# Altium footprint library ADLibrary_Footprints.PcbLib: 35 footprints (part 2 of 3)
Each footprint in its own frame and in the unit in brackets; x right, y up, seen from the top. Pads: shape width x height; smd on the part's side, far side on the other; paste and mask are expansions set on the pad; w line width, h text height; cw(c..) or ccw(c..) is an arc to the next point about the centre after c.
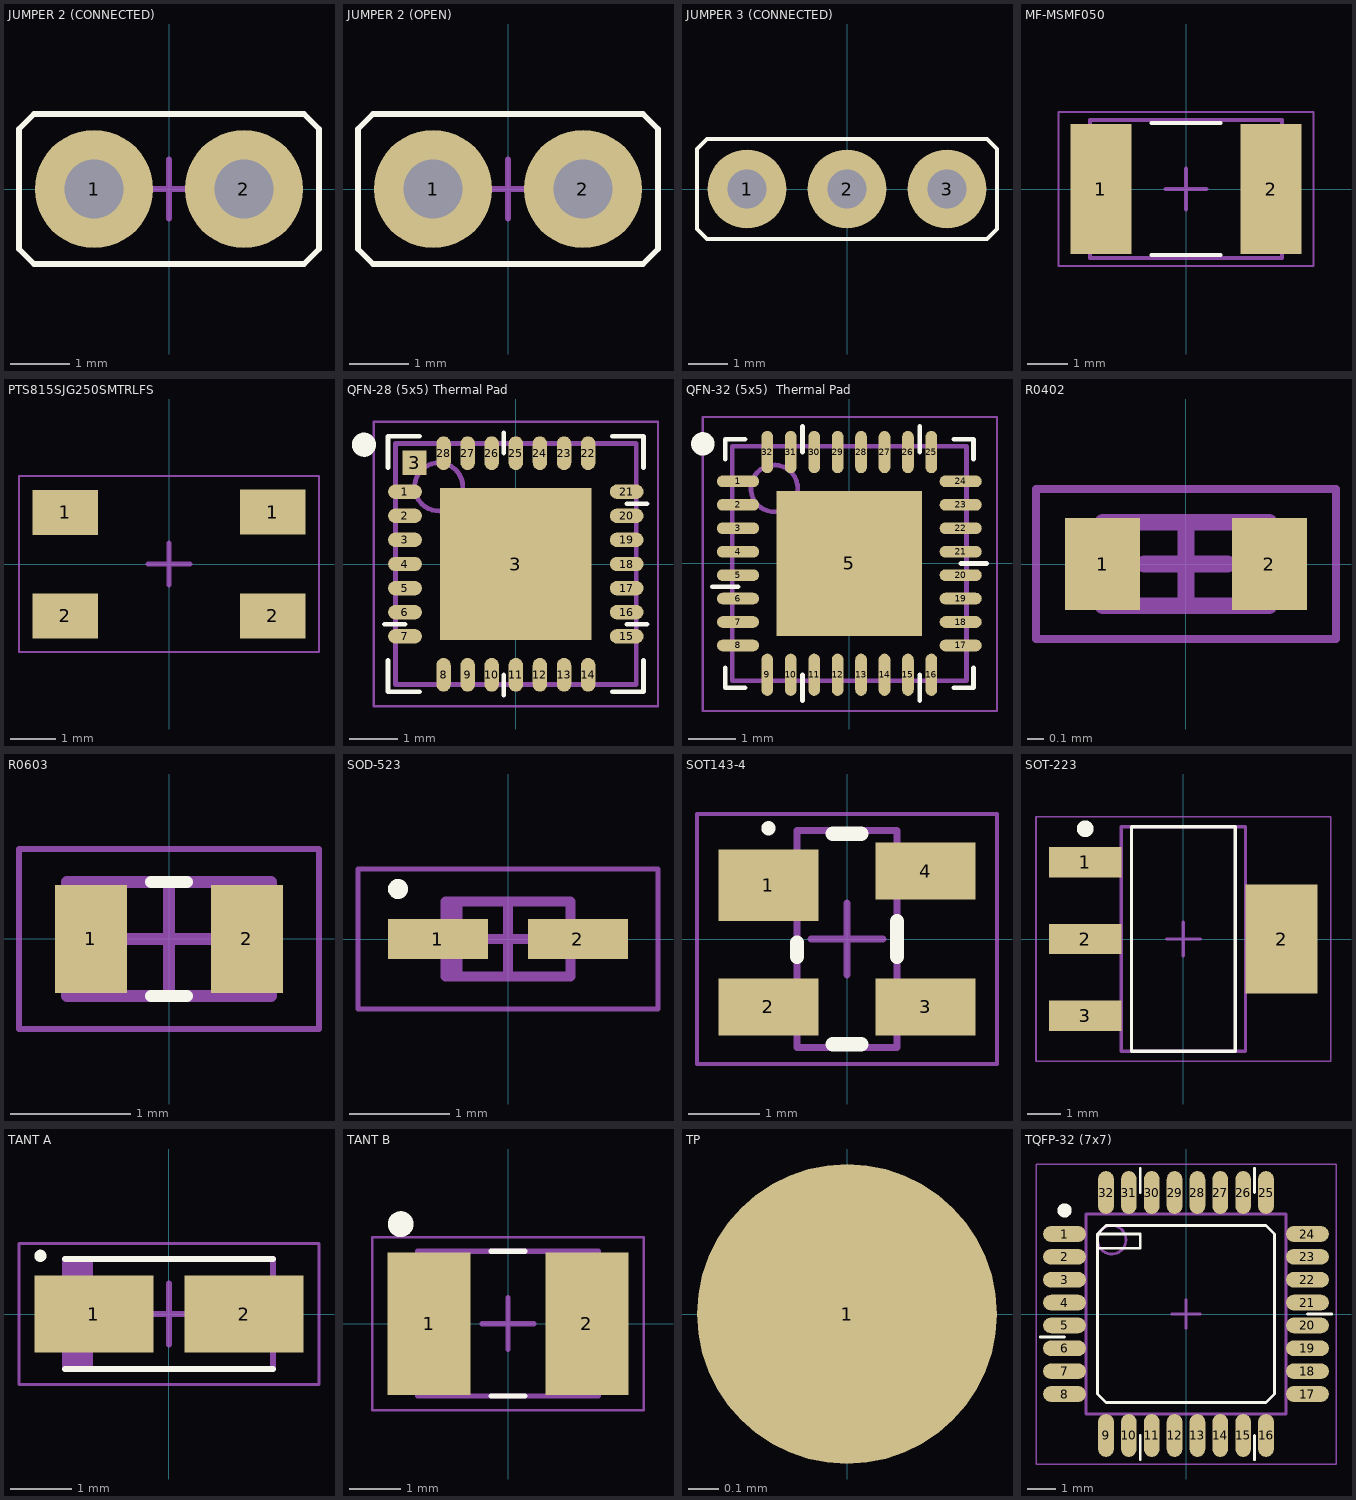
[diagram p1: the footprints below, top view; thin cyan lines are the x and y axes]

## JUMPER 2 (CONNECTED) [mm]
pads (2):
  round 2 hole 1: 1(-1.27,0) 2(1.27,0)
Top Overlay:
  lines w0.1: -2.54,-1.016 -2.54,1.016 -2.286,1.27 2.286,1.27 2.54,1.016 2.54,-1.016 2.286,-1.27 -2.286,-1.27 -2.54,-1.016
Mechanical 15:
  lines w0.1: -0.5,0 0.5,0 ; 0,-0.5 0,0.5
3D body "Jumper2-yellow.step": height 8.6, standoff -3, extent -2.6,-1.27 2.6,1.27

## JUMPER 2 (OPEN) [mm]
pads (2):
  round 2 hole 1: 1(-1.27,0) 2(1.27,0)
Top Overlay:
  lines w0.1: -2.54,-1.016 -2.286,-1.27 2.286,-1.27 2.54,-1.016 2.54,1.016 2.286,1.27 -2.286,1.27 -2.54,1.016 -2.54,-1.016
Mechanical 15:
  lines w0.1: -0.5,0 0.5,0 ; 0,-0.5 0,0.5
3D body "Pin Header 1x2.STEP": height 8.54, standoff -3, extent -2.54,-1.27 2.54,1.27

## JUMPER 3 (CONNECTED) [mm]
pads (3):
  round 2 hole 1: 1(-2.54,0) 2(0,0) 3(2.54,0)
Top Overlay:
  lines w0.1: -3.81,-1.016 -3.81,1.016 -3.556,1.27 3.556,1.27 3.81,1.016 3.81,-1.016 3.556,-1.27 -3.556,-1.27 -3.81,-1.016
Mechanical 15:
  lines w0.1: -0.5,0 0.5,0 ; 0,-0.5 0,0.5
3D body "Jumper3-yellow.step": height 8.6, standoff -3, extent -3.845,-1.27 3.835,1.27

## MF-MSMF050 [mm] "Fuse 0.5A"
height 0.85
pads (2):
  rect 1.5x3.2 smd: 1(-2.1,0) 2(2.1,0)
Top Overlay:
  lines w0.1: -0.85,-1.625 0.85,-1.625 ; -0.85,1.625 0.85,1.625
Mechanical 13:
  lines w0.1: -2.365,-1.705 -2.365,1.705 2.365,1.705 2.365,-1.705 -2.365,-1.705
Mechanical 15:
  lines w0.05: -3.15,-1.9 -3.15,1.9 3.15,1.9 3.15,-1.9 -3.15,-1.9
  lines w0.1: -0.5,0 0.5,0 ; 0,-0.5 0,0.5
3D body "MF-MSMF050.STEP": height 0.85, standoff 0, extent -2.275,-1.62 2.275,1.62

## PTS815SJG250SMTRLFS [mm] "3.2x4.2 Tact Switch"
pads (4):
  rect 1.45x1 smd: 1(-2.302,1.144) 1(2.3,1.15) 2(-2.3,-1.15) 2(2.3,-1.15)
Mechanical 15:
  lines w0.05: -3.325,-1.95 3.325,-1.95 3.325,1.95 -3.325,1.95 -3.325,-1.95
  lines w0.1: -0.475,0 0.475,0 ; 0,-0.475 0,0.475
3D body "PTS815SJG250SMTRLFS.stp": height 2.5, standoff 0, extent -2.25,-1.6 2.25,1.6

## QFN-28 (5x5) Thermal Pad [mm] "QFN, 28-Leads, Body 5,00x5,00mm, Pitch 0,50mm, Thermal Pad 3,15x3,15mm, IPC Medium Density"
height 0.9
pads (30):
  oval 0.7x0.3 smd: 1(-2.3,1.5) 2(-2.3,1) 3(-2.3,0.5) 4(-2.3,0) 5(-2.3,-0.5) 6(-2.3,-1) 7(-2.3,-1.5) 15(2.3,-1.5) 16(2.3,-1) 17(2.3,-0.5) 18(2.3,0) 19(2.3,0.5) 20(2.3,1) 21(2.3,1.5)
  rect 0.5x0.5 smd: 3(-2.1,2.1)
  rect 3.15x3.15 smd: 3(0,0)
  oval 0.3x0.7 smd: 8(-1.5,-2.3) 9(-1,-2.3) 10(-0.5,-2.3) 11(0,-2.3) 12(0.5,-2.3) 13(1,-2.3) 14(1.5,-2.3) 22(1.5,2.3) 23(1,2.3) 24(0.5,2.3) 25(0,2.3) 26(-0.5,2.3) 27(-1,2.3) 28(-1.5,2.3)
Top Overlay:
  circle w0.25: c-3.15,2.475 r0.125
  lines w0.1: -2.725,-1.25 -2.3,-1.25 ; -2.65,-2 -2.65,-2.65 -2,-2.65 ; -2.65,2 -2.65,2.65 -2,2.65 ; -0.25,-2.725 -0.25,-2.3 ; -0.25,2.3 -0.25,2.725 ; 2,-2.65 2.65,-2.65 2.65,-2 ; 2,2.65 2.65,2.65 2.65,2 ; 2.3,-1.25 2.725,-1.25 ; 2.3,1.25 2.725,1.25
Mechanical 13:
  circle w0.1: c-1.6,1.6 r0.5
  lines w0.1: -2.5,-2.5 2.5,-2.5 2.5,2.5 -2.5,2.5 -2.5,-2.5
Mechanical 15:
  lines w0.05: -2.95,-2.95 2.95,-2.95 2.95,2.95 -2.95,2.95 -2.95,-2.95
  lines w0.1: -0.5,0 0.5,0 ; 0,-0.5 0,0.5
3D body "CP2102-GMR.STEP": height 1, standoff 0, extent -2.5,-2.5 2.5,2.5

## QFN-32 (5x5)  Thermal Pad [mm] "QFN, 32-Leads, Body 5,00x5,00mm, Pitch 0,50mm, Thermal Pad 3,10x3,10mm, IPC Medium Density"
height 0.9
pads (33):
  oval 0.9x0.25 smd: 1(-2.375,1.75) 2(-2.375,1.25) 3(-2.375,0.75) 4(-2.375,0.25) 5(-2.375,-0.25) 6(-2.375,-0.75) 7(-2.375,-1.25) 8(-2.375,-1.75) 17(2.375,-1.75) 18(2.375,-1.25) 19(2.375,-0.75) 20(2.375,-0.25) 21(2.375,0.25) 22(2.375,0.75) 23(2.375,1.25) 24(2.375,1.75)
  rect 3.1x3.1 smd: 5(0,0)
  oval 0.25x0.9 smd: 9(-1.75,-2.375) 10(-1.25,-2.375) 11(-0.75,-2.375) 12(-0.25,-2.375) 13(0.25,-2.375) 14(0.75,-2.375) 15(1.25,-2.375) 16(1.75,-2.375) 25(1.75,2.375) 26(1.25,2.375) 27(0.75,2.375) 28(0.25,2.375) 29(-0.25,2.375) 30(-0.75,2.375) 31(-1.25,2.375) 32(-1.75,2.375)
Top Overlay:
  circle w0.25: c-3.125,2.55 r0.125
  lines w0.1: -2.925,-0.5 -2.375,-0.5 ; -2.65,-2.225 -2.65,-2.65 -2.225,-2.65 ; -2.65,2.225 -2.65,2.65 -2.225,2.65 ; -1,-2.925 -1,-2.375 ; -1,2.375 -1,2.925 ; 1.5,-2.925 1.5,-2.375 ; 1.5,2.375 1.5,2.925 ; 2.225,-2.65 2.65,-2.65 2.65,-2.225 ; 2.225,2.65 2.65,2.65 2.65,2.225 ; 2.375,0 2.925,0
Mechanical 13:
  circle w0.1: c-1.6,1.6 r0.5
  lines w0.1: -2.5,-2.5 2.5,-2.5 2.5,2.5 -2.5,2.5 -2.5,-2.5
Mechanical 15:
  lines w0.05: -3.125,-3.15 -3.125,3.125 3.15,3.125 3.15,-3.15 -3.125,-3.15
  lines w0.1: -0.5,0 0.5,0 ; 0,-0.5 0,0.5
3D body "QFN-32 (5x5).step": height 0.9, standoff 0, extent -2.501,-2.501 2.501,2.501

## R0402 [mm] "Chip Resistor, 2-Leads, Body 1,00x0,50mm, IPC Medium Density"
height 0.35
pads (2):
  rect 0.45x0.55 smd: 1(-0.5,0) 2(0.5,0)
Mechanical 13:
  lines w0.1: -0.5,-0.25 0.5,-0.25 0.5,0.25 -0.5,0.25 -0.5,-0.25
Mechanical 15:
  lines w0.05: -0.9,-0.45 0.9,-0.45 0.9,0.45 -0.9,0.45 -0.9,-0.45
  lines w0.1: -0.25,0 0.25,0 ; 0,-0.25 0,0.25
3D body "R0402.step": height 0.36, standoff 0.01, extent -0.508,-0.254 0.508,0.254

## R0603 [mm] "Chip Resistor, 2-Leads, Body 1,60x0,85mm, IPC Medium Density"
height 0.45
pads (2):
  rect 0.6x0.9 smd: 1(-0.65,0) 2(0.65,0)
Top Overlay:
  lines w0.1: -0.15,-0.475 0.15,-0.475 ; -0.15,0.475 0.15,0.475
Mechanical 13:
  lines w0.1: -0.85,-0.475 -0.85,0.475 0.85,0.475 0.85,-0.475 -0.85,-0.475
Mechanical 15:
  lines w0.05: -1.25,-0.75 -1.25,0.75 1.25,0.75 1.25,-0.75 -1.25,-0.75
  lines w0.1: -0.475,0 0.475,0 ; 0,-0.475 0,0.475
3D body "R0603.stp": height 0.55, standoff 0, extent -0.85,-0.45 0.85,0.45

## SOD-523 [mm] "Molded Diode, 2-Leads, Body 1,25x0,80mm, IPC Medium Density"
height 0.65
pads (2):
  rect 1x0.4 smd: 1(-0.7,0) 2(0.7,0)
Top Overlay:
  circle w0.1: c-1.1,0.5 r0.05
Mechanical 13:
  rectangle: -0.625,-0.375 -0.457,0.375
  lines w0.1: -0.625,-0.375 0.625,-0.375 0.625,0.375 -0.625,0.375 -0.625,-0.375
Mechanical 15:
  lines w0.05: -1.5,-0.7 1.5,-0.7 1.5,0.7 -1.5,0.7 -1.5,-0.7
  lines w0.1: -0.375,0 0.375,0 ; 0,-0.375 0,0.375
3D body "PMEG2010AEBF.STEP": height 0.65, standoff 0, extent -0.8,-0.4 0.8,0.4

## SOT143-4 [mm] "SOT143, 4-Leads, Body 2,92x2,51mm, Pitch 1,90mm, IPC Medium Density"
height 1.22
pads (4):
  rect 1.4x1 smd: 1(-1.1,0.75)
  rect 1.4x0.8 smd: 2(-1.1,-0.95) 3(1.1,-0.95) 4(1.1,0.95)
Top Overlay:
  circle w0.1: c-1.1,1.55 r0.05
  lines w0.2: -0.7,-0.25 -0.7,-0.05 ; -0.2,-1.475 0.2,-1.475 ; -0.2,1.475 0.2,1.475 ; 0.7,-0.25 0.7,0.25
Mechanical 13:
  lines w0.1: -0.7,-1.52 -0.7,1.52 0.7,1.52 0.7,-1.52 -0.7,-1.52
Mechanical 15:
  lines w0.05: -2.1,-1.75 -2.1,1.75 2.1,1.75 2.1,-1.75 -2.1,-1.75
  lines w0.1: -0.5,0 0.5,0 ; 0,-0.5 0,0.5
3D body "SP0503BAHTG.STEP": height 1.22, standoff 0, extent -1.185,-1.46 1.185,1.46

## SOT-223 [mm] "SOT223, 4-Leads, Body 6,51x7,00mm (avg), Pitch 2,29mm, IPC Medium Density"
height 1.8
pads (4):
  rect 2.15x0.9 smd: 1(-2.93,2.29) 2(-2.93,0) 3(-2.93,-2.29)
  rect 2.15x3.25 smd: 2(2.93,0)
Top Overlay:
  circle w0.25: c-2.93,3.29 r0.125
  lines w0.1: -1.55,-3.35 1.55,-3.35 1.55,3.35 -1.55,3.35 -1.55,-3.35
Mechanical 13:
  lines w0.1: -1.855,-3.355 1.855,-3.355 1.855,3.355 -1.855,3.355 -1.855,-3.355
Mechanical 15:
  lines w0.05: -4.4,-3.65 4.4,-3.65 4.4,3.65 -4.4,3.65 -4.4,-3.65
  lines w0.1: -0.5,0 0.5,0 ; 0,-0.5 0,0.5
3D body "AMS1117-5.0.STEP": height 1.8, standoff 0, extent -3.499,-3.251 3.499,3.251

## TANT A [mm] "Molded Capacitor, 2-Leads, Body 3,20x1,60mm, IPC Medium Density"
height 1.8
pads (2):
  rect 1.95x1.25 smd: 1(-1.225,0) 2(1.225,0)
Top Overlay:
  circle w0.1: c-2.1,0.95 r0.05
  lines w0.1: -1.7,-0.9 1.7,-0.9 ; -1.7,0.9 1.7,0.9
Mechanical 13:
  rectangle: -1.7,-0.9 -1.243,0.9
  lines w0.1: -1.7,-0.9 1.7,-0.9 1.7,0.9 -1.7,0.9 -1.7,-0.9
Mechanical 15:
  lines w0.05: -2.45,-1.15 2.45,-1.15 2.45,1.15 -2.45,1.15 -2.45,-1.15
  lines w0.1: -0.5,0 0.5,0 ; 0,-0.5 0,0.5
3D body "TANT A.STEP": height 1.8, standoff 0, extent -1.819,-0.9 1.819,0.903

## TANT B [mm] "Molded Capacitor, 2-Leads, Body 3,50x2,80mm, IPC Medium Density"
height 1.9
pads (2):
  rect 1.6x2.75 smd: 1(-1.525,0) 2(1.525,0)
Top Overlay:
  circle w0.25: c-2.075,1.925 r0.125
  lines w0.1: -0.325,-1.4 0.325,-1.4 ; -0.325,1.4 0.325,1.4
Mechanical 13:
  rectangle: -1.75,-1.4 -1.279,1.4
  lines w0.1: -1.75,-1.4 1.75,-1.4 1.75,1.4 -1.75,1.4 -1.75,-1.4
Mechanical 15:
  lines w0.05: -2.625,-1.675 2.625,-1.675 2.625,1.675 -2.625,1.675 -2.625,-1.675
  lines w0.1: -0.5,0 0.5,0 ; 0,-0.5 0,0.5
3D body "TANT B.step": height 1.91, standoff 0, extent -1.75,-1.4 1.75,1.4

## TP [mm] "Test Point"
pads (1):
  round 1 smd: 1(0,0)
Mechanical 15:
  lines w0.1: -0.4,0 0.4,0 ; 0,-0.4 0,0.4

## TQFP-32 (7x7) [mm] "CQFP, 32-Leads, Body 9,00x9,00mm, Pitch 0,80mm, IPC Medium Density"
height 1.2
pads (32):
  oval 1.5x0.55 smd: 1(-4.25,2.8) 2(-4.25,2) 3(-4.25,1.2) 4(-4.25,0.4) 5(-4.25,-0.4) 6(-4.25,-1.2) 7(-4.25,-2) 8(-4.25,-2.8) 17(4.25,-2.8) 18(4.25,-2) 19(4.25,-1.2) 20(4.25,-0.4) 21(4.25,0.4) 22(4.25,1.2) 23(4.25,2) 24(4.25,2.8)
  oval 0.55x1.5 smd: 9(-2.8,-4.25) 10(-2,-4.25) 11(-1.2,-4.25) 12(-0.4,-4.25) 13(0.4,-4.25) 14(1.2,-4.25) 15(2,-4.25) 16(2.8,-4.25) 25(2.8,4.25) 26(2,4.25) 27(1.2,4.25) 28(0.4,4.25) 29(-0.4,4.25) 30(-1.2,4.25) 31(-2,4.25) 32(-2.8,4.25)
Top Overlay:
  circle w0.25: c-4.25,3.625 r0.125
  lines w0.1: -5.1,-0.8 -4.25,-0.8 ; -3.1,2.3 -1.6,2.3 -1.6,2.8 -3.1,2.8 ; -1.6,-5.1 -1.6,-4.25 ; -1.6,4.25 -1.6,5.1 ; 2.4,-5.1 2.4,-4.25 ; 2.4,4.25 2.4,5.1 ; 4.25,0 5.1,0 ; -3.1,2.8 -2.8,3.1 2.8,3.1 3.1,2.8 3.1,-2.8 2.8,-3.1 -2.8,-3.1 -3.1,-2.8 -3.1,2.8
Mechanical 13:
  circle w0.1: c-2.6,2.6 r0.5
  lines w0.1: -3.5,-3.5 3.5,-3.5 3.5,3.5 -3.5,3.5 -3.5,-3.5
Mechanical 15:
  lines w0.05: -5.25,-5.25 5.25,-5.25 5.25,5.25 -5.25,5.25 -5.25,-5.25
  lines w0.1: -0.5,0 0.5,0 ; 0,-0.5 0,0.5
3D body "ATMEGA328PB-AU.STEP": height 1, standoff -0.1, extent -4.498,-4.498 4.498,4.498